# Altium schematic symbol library LQG18HN82NJ00D.SchLib: 1 symbol
Pins are listed as number, name and electrical type; pins without a type are passive.

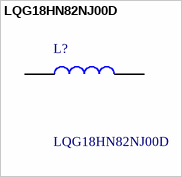
[diagram p0: symbol LQG18HN82NJ00D]

## LQG18HN82NJ00D
designator L?
Murata LQQ18HN Series Wire-wound SMD Inductor 0.082 uH +/-5% 300mA Idc Q:12; Manufacturer_Name: Murata Electronics; Geometry.Height: 0.95mm; Mouser Part Number: 81-LQG18HN82NJ00D; Mouser Price/Stock: https://www.mouser.co.uk/ProductDetail/Murata-Electronics/LQG18HN82NJ00D?qs=V1L9lRAtZIvboq8xrE8%252BJA%3D%3D; Manufacturer_Part_Number: LQG18HN82NJ00D; Datasheet Link: https://psearch.en.murata.com/inductor/product/LQG18HN82NJ00%23.html
footprint LQM18PH1R0MFRL
pins: 1, 2